# EAGLE library part TLV757P (library ECE5780-MotorDriver)
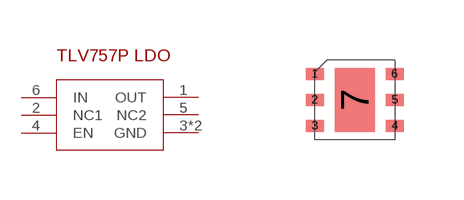
[diagram p2: symbol with the pads of WSON-6; footprint WSON-6]

Designator prefix -

## TLV757P  [WSON-6]
1  OUT
2  NC1
3  GND
4  EN
5  NC2
6  IN
7  GND

## Footprint WSON-6 (pad centres in mm)
smd 0.45 x 0.3: 1 0,1.65; 2 0,1; 3 0,0.35; 4 2,0.35; 5 2,1; 6 2,1.65
smd 1 x 1.6: 7 1,1